# Altium footprint library SO-ICs.PcbLib: 2 footprints
Each footprint in its own frame and in the unit in brackets; x right, y up, seen from the top. Pads: shape width x height; smd on the part's side, far side on the other; paste and mask are expansions set on the pad; w line width, h text height; cw(c..) or ccw(c..) is an arc to the next point about the centre after c.
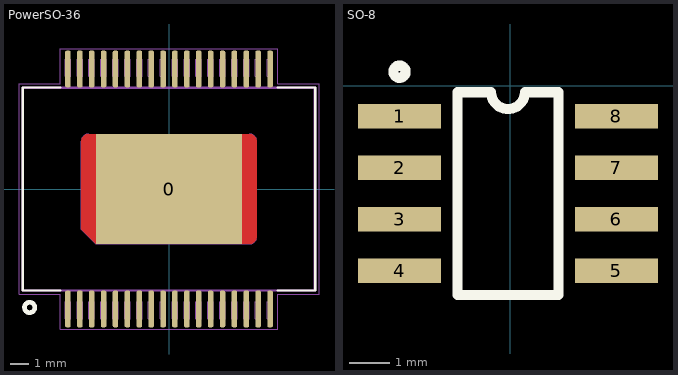
[diagram p0: the footprints below, top view; thin cyan lines are the x and y axes]

## PowerSO-36 [mm]
pads (37):
  rect 8x6 smd paste-8 mask+0: 0(0,0)
  rrect52% 0.3x2 smd: 1(-5.525,-6.56) 2(-4.875,-6.56) 3(-4.225,-6.56) 4(-3.575,-6.56) 5(-2.925,-6.56) 6(-2.275,-6.56) 7(-1.625,-6.56) 8(-0.975,-6.56) 9(-0.325,-6.56) 10(0.325,-6.56) 11(0.975,-6.56) 12(1.625,-6.56) 13(2.275,-6.56) 14(2.925,-6.56) 15(3.575,-6.56) 16(4.225,-6.56) 17(4.875,-6.56) 18(5.525,-6.56) 19(5.525,6.56) 20(4.875,6.56) 21(4.225,6.56) 22(3.575,6.56) 23(2.925,6.56) 24(2.275,6.56) 25(1.625,6.56) 26(0.975,6.56) 27(0.325,6.56) 28(-0.325,6.56) 29(-0.975,6.56) 30(-1.625,6.56) 31(-2.275,6.56) 32(-2.925,6.56) 33(-3.575,6.56) 34(-4.225,6.56) 35(-4.875,6.56) 36(-5.525,6.56)
Top Layer:
  region: 4.8,0 4.8,-2.6 4.795,-2.663 4.78,-2.724 4.756,-2.782 4.724,-2.835 4.683,-2.883 4.635,-2.924 4.582,-2.956 4.524,-2.98 4.463,-2.995 -4,-3 -4.8,-2.2 -4.8,2.6 -4.795,2.663 -4.78,2.724 -4.756,2.782 -4.724,2.835 -4.683,2.883 -4.635,2.924 -4.582,2.956 -4.524,2.98 -4.463,2.995 4.4,3 4.463,2.995 4.524,2.98 4.582,2.956 4.635,2.924 4.683,2.883 4.724,2.835 4.756,2.782 4.78,2.724 4.795,2.663 4.8,2.6
Top Overlay:
  circle w0.254: c-7.62,-6.477 r0.284
  lines w0.12: -5.935,-5.55 -8,-5.55 -8,5.55 -5.935,5.55 ; 5.935,-5.55 8,-5.55 8,5.55 5.935,5.55
Top Paste:
  region: -3.38,1.355 -4.62,1.355 -4.62,2.645 -3.38,2.645
  region: -3.38,-0.645 -4.62,-0.645 -4.62,0.645 -3.38,0.645
  region: -3.38,-2.534 -4.466,-2.534 -4.466,-1.355 -3.38,-1.355
  region: -1.78,1.355 -3.02,1.355 -3.02,2.645 -1.78,2.645
  region: -1.78,-0.645 -3.02,-0.645 -3.02,0.645 -1.78,0.645
  region: -1.78,-2.645 -3.02,-2.645 -3.02,-1.355 -1.78,-1.355
  region: -0.18,1.355 -1.42,1.355 -1.42,2.645 -0.18,2.645
  region: -0.18,-0.645 -1.42,-0.645 -1.42,0.645 -0.18,0.645
  region: -0.18,-2.645 -1.42,-2.645 -1.42,-1.355 -0.18,-1.355
  region: 1.42,1.355 0.18,1.355 0.18,2.645 1.42,2.645
  region: 1.42,-0.645 0.18,-0.645 0.18,0.645 1.42,0.645
  region: 1.42,-2.645 0.18,-2.645 0.18,-1.355 1.42,-1.355
  region: 3.02,1.355 1.78,1.355 1.78,2.645 3.02,2.645
  region: 3.02,-0.645 1.78,-0.645 1.78,0.645 3.02,0.645
  region: 3.02,-2.645 1.78,-2.645 1.78,-1.355 3.02,-1.355
  region: 4.62,1.355 3.38,1.355 3.38,2.645 4.62,2.645
  region: 4.62,-0.645 3.38,-0.645 3.38,0.645 4.62,0.645
  region: 4.62,-2.645 3.38,-2.645 3.38,-1.355 4.62,-1.355
Top Solder:
  region: 4.8,0 4.8,-2.6 4.795,-2.663 4.78,-2.724 4.756,-2.782 4.724,-2.835 4.683,-2.883 4.635,-2.924 4.582,-2.956 4.524,-2.98 4.463,-2.995 -4,-3 -4.8,-2.2 -4.8,2.6 -4.795,2.663 -4.78,2.724 -4.756,2.782 -4.724,2.835 -4.683,2.883 -4.635,2.924 -4.582,2.956 -4.524,2.98 -4.463,2.995 4.4,3 4.463,2.995 4.524,2.98 4.582,2.956 4.635,2.924 4.683,2.883 4.724,2.835 4.756,2.782 4.78,2.724 4.795,2.663 4.8,2.6
Mechanical 11:
  lines w0.12: -8,-5.55 8,-5.55 8,5.55 -8,5.55 -8,-5.55
Mechanical 12:
  drawing of 156 lines, arcs and shapes, not listed
Mechanical 15:
  circle w0.05: c0,0 r0.25
  lines w0.05: -0.35,0 0.35,0 ; 0,-0.35 0,0.35 ; -8.2,-5.75 -5.955,-5.75 -5.955,-7.655 5.955,-7.655 5.955,-5.75 8.2,-5.75 8.2,5.75 5.955,5.75 5.955,7.655 -5.955,7.655 -5.955,5.75 -8.2,5.75 -8.2,-5.75
Mechanical 16:
  text ".Designator" at 0,0 h1.2

## SO-8 [mm]
pads (8):
  rect 2.05x0.6 smd: 1(-2.734,-0.754) 2(-2.734,-2.024) 3(-2.734,-3.294) 4(-2.734,-4.564) 5(2.616,-4.564) 6(2.616,-3.294) 7(2.616,-2.024) 8(2.616,-0.754)
Top Overlay:
  circle w0.25: c-2.734,0.346 r0.15
  lines w0.25: -1.309,-5.159 1.191,-5.159 1.191,-0.159 0.358,-0.159 cw(c-0.059,-0.159) -0.476,-0.159 -1.309,-0.159 -1.309,-5.159